# Altium footprint library Conn-IEC-C8.PcbLib: 1 footprints
Each footprint in its own frame and in the unit in brackets; x right, y up, seen from the top. Pads: shape width x height; smd on the part's side, far side on the other; paste and mask are expansions set on the pad; w line width, h text height; cw(c..) or ccw(c..) is an arc to the next point about the centre after c.
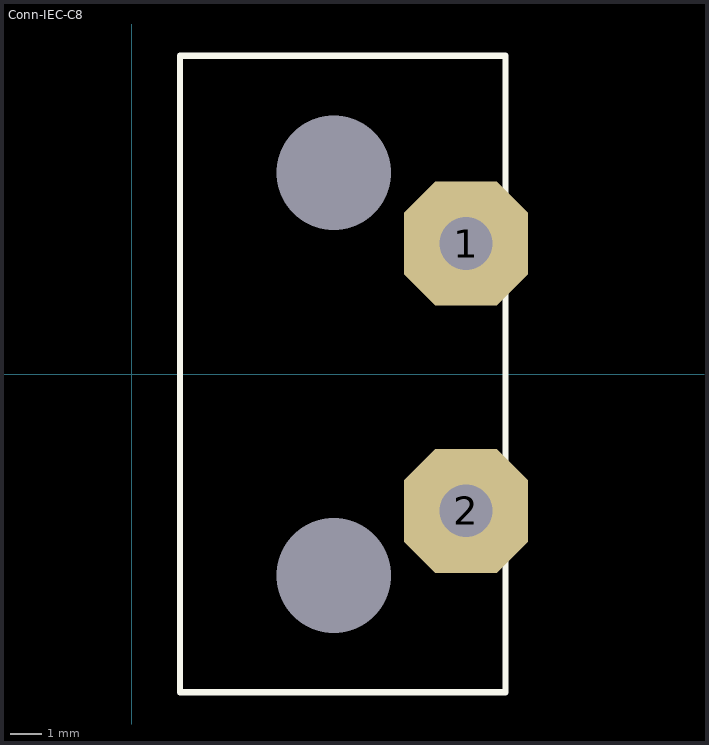
[diagram p0: the footprint, top view; thin cyan lines are the x and y axes]

## Conn-IEC-C8 [mm]
pads (4):
  oct 4x4 hole 1.7: 1(10.781,4.217) 2(10.781,-4.411)
  round 3.4 hole 3.7 unplated: ""(6.518,6.499) ""(6.518,-6.497)
Top Overlay:
  lines w0.2: 1.552,-10.261 1.552,10.274 12.055,10.274 12.055,-10.261 1.552,-10.261
3D body "IEC C8 Connector 2 PIN.STEP": height 6, standoff -13.2, extent -2.7,-11.15 11.3,10.85